# Altium integrated library JDlibs.IntLib: 3 symbols
Pins are listed as number, name and electrical type; pins without a type are passive.

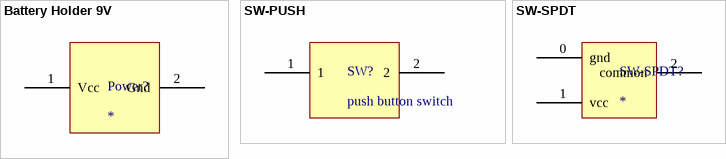
[diagram p0: symbols Battery Holder 9V to SW-SPDT]

## Battery Holder 9V
designator Power?
footprint PCBComponent_1 - duplicate
pins: 1 Vcc, 2 Gnd, 3 NC hidden

## SW-PUSH
designator SW?, comment push button switch
footprint SW-PUSH-4
pins: 1, 2

## SW-SPDT
designator SW-SPDT?
footprint PCBComponent_1
pins: 0 gnd, 1 vcc, 2 common, 3 NC hidden